# Altium integrated library Texas Instruments Power Management PWM Controller.IntLib: 1227 symbols (part 45 of 49)
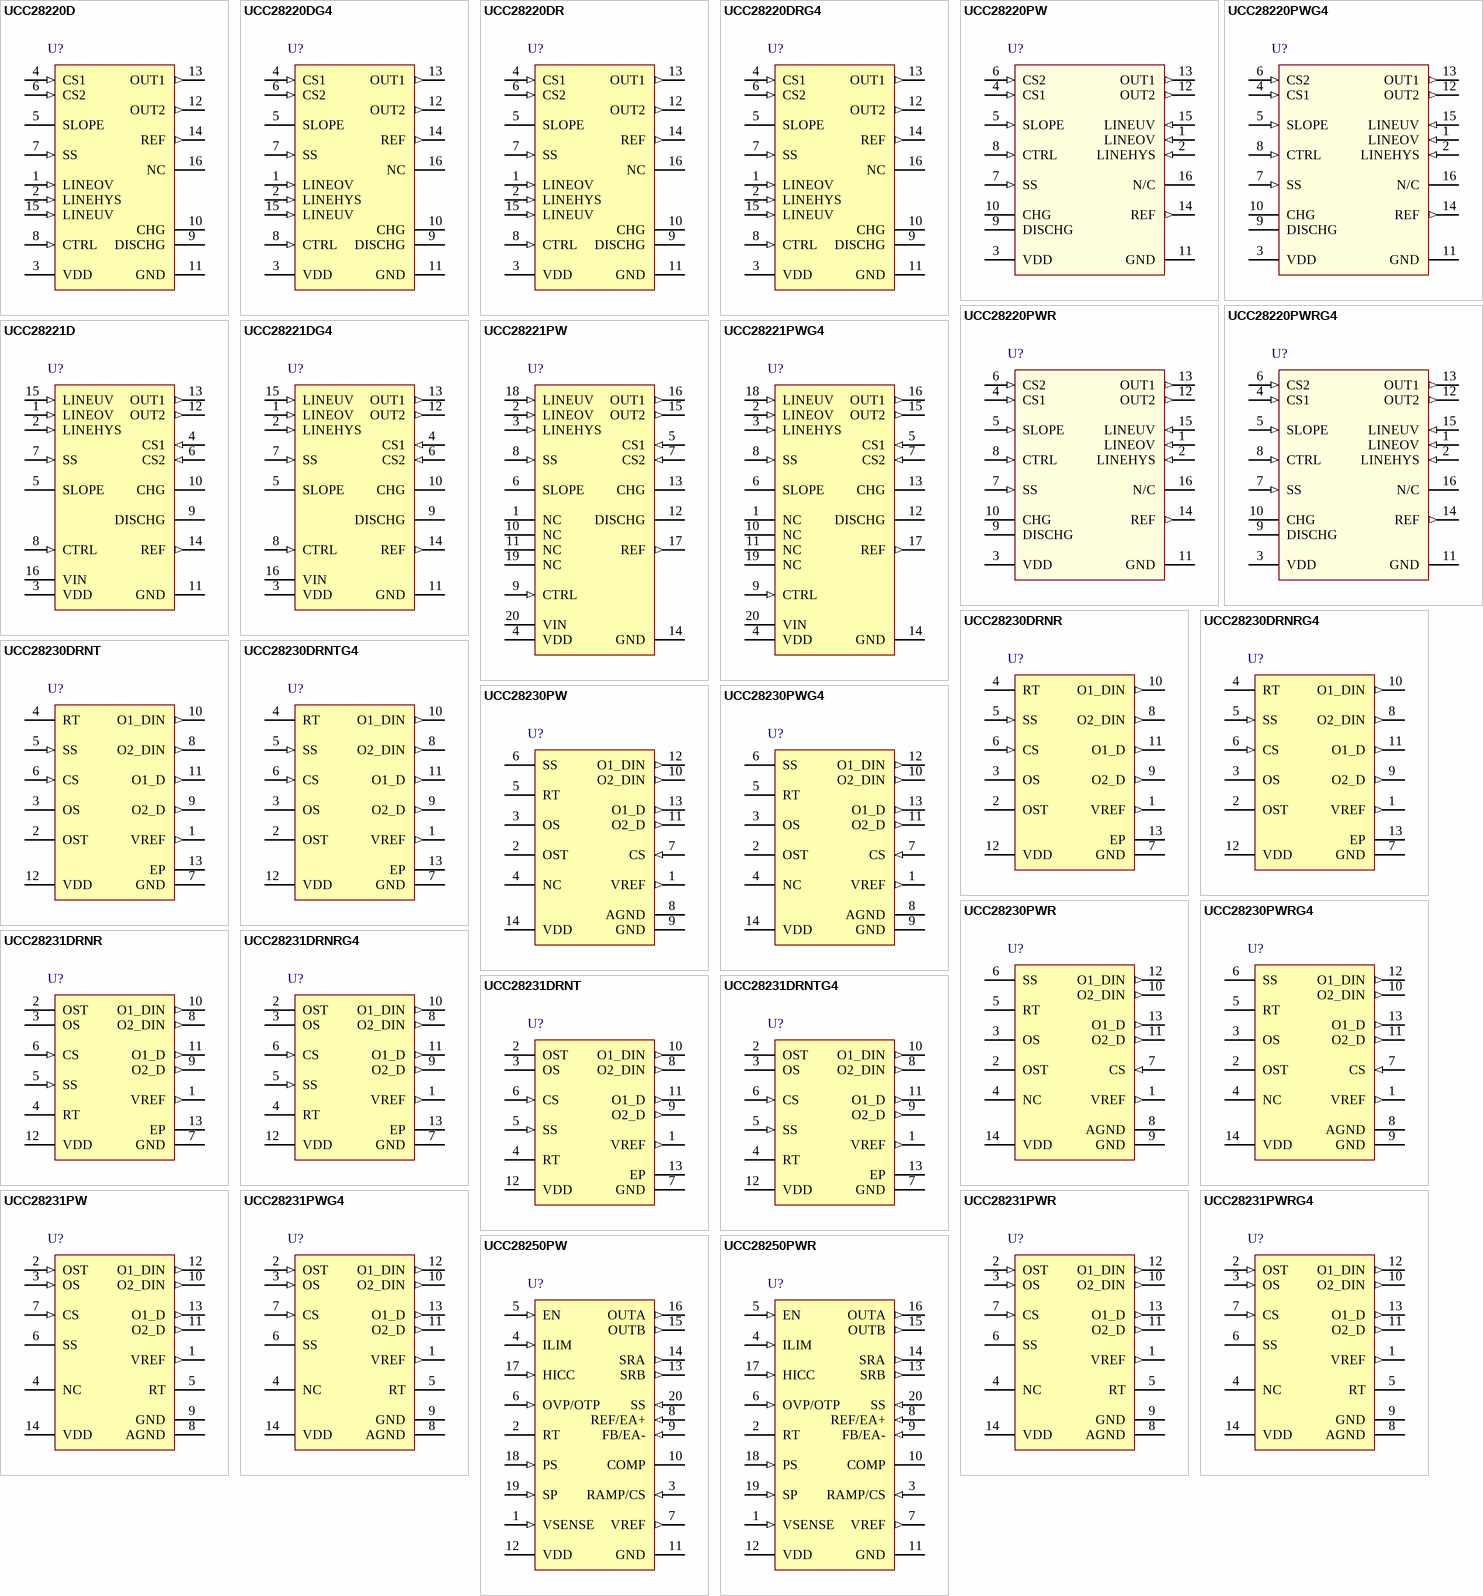
[diagram p87: symbols UCC28220D to UCC28250PWR]

## UCC28231DRNT
designator U?
Advanced PWM Controller for Bus Converter with Voltage Control, 100 % Duty Cycle, -55 to +125 degC, 12-pin USON (DRN), Green (RoHS & no Sb/Br); PartNumber: UCC28231DRNT; Manufacturer: Texas Instruments; Duty Cycle(Max)(%): 100; Frequency(Max)(kHz): 1000; Rating: Catalog; Regulated Outputs(#): 1; Topology: Push-Pull, Half-Bridge, Full-Bridge; UVLO Thresholds On/Off(V): 6.3/5.7; DatasheetVersion: SLUS814A; PackageVersion: revB, May-2005; PackageReference: DRN12-2300X900TP; PackageDescription: 12-Pin Plastic Small Outline, 2 x 3 x 0.6 mm Body, 0.5 mm Pitch, Exposed Pad; Supplier 1: Digi-Key; Supplier Part Number 1: 296-23562-2-ND; Supplier 2: Digi-Key; Supplier Part Number 2: 296-23562-1-ND; Supplier 3: Digi-Key; Supplier Part Number 3: 296-23562-6-ND; Supplier 4: Newark; Supplier Part Number 4: 15N0089; Supplier 5: Mouser; Supplier Part Number 5: 595-UCC28231DRNT; Control Method: Voltage; Eco-Plan: Green (RoHS & no Sb/Br); SubFamily: PWM Controller; Mounting Technology: Surface Mount; Code_JEDEC: MO-229; ComponentLink1Description: Datasheet; ComponentLink1URL: http://www.ti.com/general/docs/lit/getliterature.tsp?genericPartNumber=UCC28231&fileType=pdf
footprint DRN12-2300X900TP (SON, 12-Leads, Body 2x3mm, Pitch 0.5mm, Thermal Pad 0.9x2.3mm, TI Recommended)
pins: 1 VREF (out) "+/-1.5% accurate 5 V for UCC28230 and 3.3 V for UCC28231, 10-mA output reference voltage with short circuit protection that can be used for ixed switching frequency setting and/or for housekeeping microcontroller.place (See Datasheet)", 2 OST "Off time control threshold pin uses a resistor divider to set current level as percentage of current limit threshold.", 3 OS "Nominal off time TOFF and dead time TDT set pin.  An external resistor connected between this pin and GND sets the dead time and nominal off time.", 4 RT "Oscillator timing input pin. The external resistor which is connected between this pin and VIN sets the oscillator frequency which varies with VIN. Tying the external resistor to VREF sets fixed frequency operation (See Datasheet)", 5 SS (in) "Input to adjustable soft-start,and hiccup mode circuit. Place soft-start capacitor from this pin to GND. The internal charge/discharge current ISS and an external capacitor value set the soft-start timing, duration of (See Datasheet)", 6 CS (in) "Current sensing pin used for cycle-by-cycle current limit, short circuit protection and off time control.", 7 GND (power) "Ground pin connected to thermal pad. All signals are referenced to this node.", 8 O2_DIN (out) "0.2-A sink/source switching output pin to an external driver providing 1-D pulse.", 9 O2_D (out) "0.2-A sink/source switching output pin to an external driver providing D pulse.", 10 O1_DIN (out) "0.2-A sink/source switching output pin to an external driver providing 1-D pulse.", 11 O1_D (out) "0.2-A sink/source switching output pin to an external driver providing D pulse.", 12 VDD (power) "Connect this pin to a 7-V to 17-V bias supply. Place a high quality at least 1uF ceramic bypass capacitor from this pin to GND", 13 EP (power) "Exposed Thermal Pad"

## UCC28231DRNTG4
designator U?
Advanced PWM Controller for Bus Converter with Voltage Control, 100 % Duty Cycle, -55 to +125 degC, 12-pin USON (DRN), Green (RoHS & no Sb/Br); PartNumber: UCC28231DRNTG4; Manufacturer: Texas Instruments; Duty Cycle(Max)(%): 100; Frequency(Max)(kHz): 1000; Rating: Catalog; Regulated Outputs(#): 1; Topology: Push-Pull, Half-Bridge, Full-Bridge; UVLO Thresholds On/Off(V): 6.3/5.7; DatasheetVersion: SLUS814A; PackageVersion: revB, May-2005; PackageReference: DRN12-2300X900TP; PackageDescription: 12-Pin Plastic Small Outline, 2 x 3 x 0.6 mm Body, 0.5 mm Pitch, Exposed Pad; Supplier 1: Digi-Key; Supplier Part Number 1: UCC28231DRNTG4-ND; Supplier 2: Mouser; Supplier Part Number 2: 595-UCC28231DRNTG4; Control Method: Voltage; Eco-Plan: Green (RoHS & no Sb/Br); SubFamily: PWM Controller; Mounting Technology: Surface Mount; Code_JEDEC: MO-229; ComponentLink1Description: Datasheet; ComponentLink1URL: http://www.ti.com/general/docs/lit/getliterature.tsp?genericPartNumber=UCC28231&fileType=pdf
footprint DRN12-2300X900TP (SON, 12-Leads, Body 2x3mm, Pitch 0.5mm, Thermal Pad 0.9x2.3mm, TI Recommended)
pins: 1 VREF (out) "+/-1.5% accurate 5 V for UCC28230 and 3.3 V for UCC28231, 10-mA output reference voltage with short circuit protection that can be used for ixed switching frequency setting and/or for housekeeping microcontroller.place (See Datasheet)", 2 OST "Off time control threshold pin uses a resistor divider to set current level as percentage of current limit threshold.", 3 OS "Nominal off time TOFF and dead time TDT set pin.  An external resistor connected between this pin and GND sets the dead time and nominal off time.", 4 RT "Oscillator timing input pin. The external resistor which is connected between this pin and VIN sets the oscillator frequency which varies with VIN. Tying the external resistor to VREF sets fixed frequency operation (See Datasheet)", 5 SS (in) "Input to adjustable soft-start,and hiccup mode circuit. Place soft-start capacitor from this pin to GND. The internal charge/discharge current ISS and an external capacitor value set the soft-start timing, duration of (See Datasheet)", 6 CS (in) "Current sensing pin used for cycle-by-cycle current limit, short circuit protection and off time control.", 7 GND (power) "Ground pin connected to thermal pad. All signals are referenced to this node.", 8 O2_DIN (out) "0.2-A sink/source switching output pin to an external driver providing 1-D pulse.", 9 O2_D (out) "0.2-A sink/source switching output pin to an external driver providing D pulse.", 10 O1_DIN (out) "0.2-A sink/source switching output pin to an external driver providing 1-D pulse.", 11 O1_D (out) "0.2-A sink/source switching output pin to an external driver providing D pulse.", 12 VDD (power) "Connect this pin to a 7-V to 17-V bias supply. Place a high quality at least 1uF ceramic bypass capacitor from this pin to GND", 13 EP (power) "Exposed Thermal Pad"

## UCC28231PW
designator U?
Advanced PWM Controller for Bus Converter with Voltage Control, 100 % Duty Cycle, -55 to +125 degC, 14-pin TSSOP (PW), Green (RoHS & no Sb/Br); PartNumber: UCC28231PW; Manufacturer: Texas Instruments; Duty Cycle(Max)(%): 100; Frequency(Max)(kHz): 1000; Rating: Catalog; Regulated Outputs(#): 1; Topology: Push-Pull, Half-Bridge, Full-Bridge; UVLO Thresholds On/Off(V): 6.3/5.7; DatasheetVersion: SLUS814A; PackageVersion: revG, Feb-2011; PackageReference: PW14; PackageDescription: 14-Pin Thin Small Outline Package 0.65 mm Pitch; Supplier 1: Digi-Key; Supplier Part Number 1: UCC28231PW-ND; Supplier 2: Farnell; Supplier Part Number 2: 1755681; Supplier 3: Newark; Supplier Part Number 3: 02P9904; Supplier 4: Mouser; Supplier Part Number 4: 595-UCC28231PW; Control Method: Voltage; Eco-Plan: Green (RoHS & no Sb/Br); SubFamily: PWM Controller; Mounting Technology: Surface Mount; Code_JEDEC: MO-153; ComponentLink1Description: Datasheet; ComponentLink1URL: http://www.ti.com/general/docs/lit/getliterature.tsp?genericPartNumber=UCC28231&fileType=pdf
footprint PW14_N (TSOP, 14-Leads, Body 5x4.4mm, Pitch 0.65mm, IPC Medium Density)
footprint PW14_L (TSOP, 14-Leads, Body 5x4.4mm, Pitch 0.65mm, IPC High Density)
footprint PW14_M (TSOP, 14-Leads, Body 5x4.4mm, Pitch 0.65mm, IPC Low Density)
pins: 1 VREF (out) "+/-1.5% accurate 3.3 V for UCC28231, 10-mA output reference voltage with short circuit protection that can be used for fixed swiching frequency setting and/or for housekeeping miscrocontroller. Place decoupling capacitor in (See Datasheet)", 2 OST (in) "Off time control threshold pin uses a resistor divider to set current level as percentage of current limit threshold.", 3 OS (in) "Nominale off time TOFF and dead time TDT set pin. An external resistor connected between this pin and GND sets the dead time and nominal off time.", 4 NC "Not connected pin, TSSOP-14 only.", 5 RT "Oscillator timing input pin. The external resistor which is connected between this pin and VIN sets the oscillator frequency which varies with VIN. Tying the external resistor to VREF sets fixed frequency operation (See Datasheet)", 6 SS "Input to adjustable soft-start,and hiccup mode circuit. Place soft-start capacitor from this pin to GND. The internal charge/discharge current ISS and an external capacitor value set the soft-start timing, duration of (See Datasheet)", 7 CS (in) "Current sensing pin used for cycle-by-cycle current limit, short circuit protection and off time control.", 8 AGND (power) "Analog ground, TSSOP-14 only.", 9 GND (power) "Ground pin connected to thermal pad. All signals are referenced to this node.", 10 O2_DIN (out) "0.2-A sink/source switching output pin to an external driver providing 1-D pulse.", 11 O2_D (out) "0.2-A sink/source switching output pin to an external driver providing D pulse.", 12 O1_DIN (out) "0.2-A sink/source switching output pin to an external driver providing 1-D pulse.", 13 O1_D (out) "0.2-A sink/source switching output pin to an external driver providing D pulse.", 14 VDD (power) "Connect this pin to a 7-V to 17-V bias supply. Place a high quality at least 1-uF ceramic bypass capacitor from this pin to GND."

## UCC28231PWG4
designator U?
Advanced PWM Controller for Bus Converter with Voltage Control, 100 % Duty Cycle, -55 to +125 degC, 14-pin TSSOP (PW), Green (RoHS & no Sb/Br); PartNumber: UCC28231PWG4; Manufacturer: Texas Instruments; Duty Cycle(Max)(%): 100; Frequency(Max)(kHz): 1000; Rating: Catalog; Regulated Outputs(#): 1; Topology: Push-Pull, Half-Bridge, Full-Bridge; UVLO Thresholds On/Off(V): 6.3/5.7; DatasheetVersion: SLUS814A; PackageVersion: revG, Feb-2011; PackageReference: PW14; PackageDescription: 14-Pin Thin Small Outline Package 0.65 mm Pitch; Supplier 1: Digi-Key; Supplier Part Number 1: UCC28231PWG4-ND; Supplier 2: Mouser; Supplier Part Number 2: 595-UCC28231PWG4; Control Method: Voltage; Eco-Plan: Green (RoHS & no Sb/Br); SubFamily: PWM Controller; Mounting Technology: Surface Mount; Code_JEDEC: MO-153; ComponentLink1Description: Datasheet; ComponentLink1URL: http://www.ti.com/general/docs/lit/getliterature.tsp?genericPartNumber=UCC28231&fileType=pdf
footprint PW14_N (TSOP, 14-Leads, Body 5x4.4mm, Pitch 0.65mm, IPC Medium Density)
footprint PW14_L (TSOP, 14-Leads, Body 5x4.4mm, Pitch 0.65mm, IPC High Density)
footprint PW14_M (TSOP, 14-Leads, Body 5x4.4mm, Pitch 0.65mm, IPC Low Density)
pins: 1 VREF (out) "+/-1.5% accurate 3.3 V for UCC28231, 10-mA output reference voltage with short circuit protection that can be used for fixed swiching frequency setting and/or for housekeeping miscrocontroller. Place decoupling capacitor in (See Datasheet)", 2 OST (in) "Off time control threshold pin uses a resistor divider to set current level as percentage of current limit threshold.", 3 OS (in) "Nominale off time TOFF and dead time TDT set pin. An external resistor connected between this pin and GND sets the dead time and nominal off time.", 4 NC "Not connected pin, TSSOP-14 only.", 5 RT "Oscillator timing input pin. The external resistor which is connected between this pin and VIN sets the oscillator frequency which varies with VIN. Tying the external resistor to VREF sets fixed frequency operation (See Datasheet)", 6 SS "Input to adjustable soft-start,and hiccup mode circuit. Place soft-start capacitor from this pin to GND. The internal charge/discharge current ISS and an external capacitor value set the soft-start timing, duration of (See Datasheet)", 7 CS (in) "Current sensing pin used for cycle-by-cycle current limit, short circuit protection and off time control.", 8 AGND (power) "Analog ground, TSSOP-14 only.", 9 GND (power) "Ground pin connected to thermal pad. All signals are referenced to this node.", 10 O2_DIN (out) "0.2-A sink/source switching output pin to an external driver providing 1-D pulse.", 11 O2_D (out) "0.2-A sink/source switching output pin to an external driver providing D pulse.", 12 O1_DIN (out) "0.2-A sink/source switching output pin to an external driver providing 1-D pulse.", 13 O1_D (out) "0.2-A sink/source switching output pin to an external driver providing D pulse.", 14 VDD (power) "Connect this pin to a 7-V to 17-V bias supply. Place a high quality at least 1-uF ceramic bypass capacitor from this pin to GND."

## UCC28231PWR
designator U?
Advanced PWM Controller for Bus Converter with Voltage Control, 100 % Duty Cycle, -55 to +125 degC, 14-pin TSSOP (PW), Green (RoHS & no Sb/Br); PartNumber: UCC28231PWR; Manufacturer: Texas Instruments; Duty Cycle(Max)(%): 100; Frequency(Max)(kHz): 1000; Rating: Catalog; Regulated Outputs(#): 1; Topology: Push-Pull, Half-Bridge, Full-Bridge; UVLO Thresholds On/Off(V): 6.3/5.7; DatasheetVersion: SLUS814A; PackageVersion: revG, Feb-2011; PackageReference: PW14; PackageDescription: 14-Pin Thin Small Outline Package 0.65 mm Pitch; Supplier 1: Digi-Key; Supplier Part Number 1: 296-23563-2-ND; Supplier 2: Digi-Key; Supplier Part Number 2: 296-23563-1-ND; Supplier 3: Digi-Key; Supplier Part Number 3: 296-23563-6-ND; Supplier 4: Mouser; Supplier Part Number 4: 595-UCC28231PWR; Control Method: Voltage; Eco-Plan: Green (RoHS & no Sb/Br); SubFamily: PWM Controller; Mounting Technology: Surface Mount; Code_JEDEC: MO-153; ComponentLink1Description: Datasheet; ComponentLink1URL: http://www.ti.com/general/docs/lit/getliterature.tsp?genericPartNumber=UCC28231&fileType=pdf
footprint PW14_N (TSOP, 14-Leads, Body 5x4.4mm, Pitch 0.65mm, IPC Medium Density)
footprint PW14_L (TSOP, 14-Leads, Body 5x4.4mm, Pitch 0.65mm, IPC High Density)
footprint PW14_M (TSOP, 14-Leads, Body 5x4.4mm, Pitch 0.65mm, IPC Low Density)
pins: 1 VREF (out) "+/-1.5% accurate 3.3 V for UCC28231, 10-mA output reference voltage with short circuit protection that can be used for fixed swiching frequency setting and/or for housekeeping miscrocontroller. Place decoupling capacitor in (See Datasheet)", 2 OST (in) "Off time control threshold pin uses a resistor divider to set current level as percentage of current limit threshold.", 3 OS (in) "Nominale off time TOFF and dead time TDT set pin. An external resistor connected between this pin and GND sets the dead time and nominal off time.", 4 NC "Not connected pin, TSSOP-14 only.", 5 RT "Oscillator timing input pin. The external resistor which is connected between this pin and VIN sets the oscillator frequency which varies with VIN. Tying the external resistor to VREF sets fixed frequency operation (See Datasheet)", 6 SS "Input to adjustable soft-start,and hiccup mode circuit. Place soft-start capacitor from this pin to GND. The internal charge/discharge current ISS and an external capacitor value set the soft-start timing, duration of (See Datasheet)", 7 CS (in) "Current sensing pin used for cycle-by-cycle current limit, short circuit protection and off time control.", 8 AGND (power) "Analog ground, TSSOP-14 only.", 9 GND (power) "Ground pin connected to thermal pad. All signals are referenced to this node.", 10 O2_DIN (out) "0.2-A sink/source switching output pin to an external driver providing 1-D pulse.", 11 O2_D (out) "0.2-A sink/source switching output pin to an external driver providing D pulse.", 12 O1_DIN (out) "0.2-A sink/source switching output pin to an external driver providing 1-D pulse.", 13 O1_D (out) "0.2-A sink/source switching output pin to an external driver providing D pulse.", 14 VDD (power) "Connect this pin to a 7-V to 17-V bias supply. Place a high quality at least 1-uF ceramic bypass capacitor from this pin to GND."

## UCC28231PWRG4
designator U?
Advanced PWM Controller for Bus Converter with Voltage Control, 100 % Duty Cycle, -55 to +125 degC, 14-pin TSSOP (PW), Green (RoHS & no Sb/Br); PartNumber: UCC28231PWRG4; Manufacturer: Texas Instruments; Duty Cycle(Max)(%): 100; Frequency(Max)(kHz): 1000; Rating: Catalog; Regulated Outputs(#): 1; Topology: Push-Pull, Half-Bridge, Full-Bridge; UVLO Thresholds On/Off(V): 6.3/5.7; DatasheetVersion: SLUS814A; PackageVersion: revG, Feb-2011; PackageReference: PW14; PackageDescription: 14-Pin Thin Small Outline Package 0.65 mm Pitch; Supplier 1: Digi-Key; Supplier Part Number 1: UCC28231PWRG4-ND; Supplier 2: Mouser; Supplier Part Number 2: 595-UCC28231PWRG4; Control Method: Voltage; Eco-Plan: Green (RoHS & no Sb/Br); SubFamily: PWM Controller; Mounting Technology: Surface Mount; Code_JEDEC: MO-153; ComponentLink1Description: Datasheet; ComponentLink1URL: http://www.ti.com/general/docs/lit/getliterature.tsp?genericPartNumber=UCC28231&fileType=pdf; ComponentLink2Description: URL Link1; ComponentLink2URL: Samples URL:http://www.ti.com/lit/ds/symlink/ucc28231.pdf
footprint PW14_N (TSOP, 14-Leads, Body 5x4.4mm, Pitch 0.65mm, IPC Medium Density)
footprint PW14_L (TSOP, 14-Leads, Body 5x4.4mm, Pitch 0.65mm, IPC High Density)
footprint PW14_M (TSOP, 14-Leads, Body 5x4.4mm, Pitch 0.65mm, IPC Low Density)
pins: 1 VREF (out) "+/-1.5% accurate 3.3 V for UCC28231, 10-mA output reference voltage with short circuit protection that can be used for fixed swiching frequency setting and/or for housekeeping miscrocontroller. Place decoupling capacitor in (See Datasheet)", 2 OST (in) "Off time control threshold pin uses a resistor divider to set current level as percentage of current limit threshold.", 3 OS (in) "Nominale off time TOFF and dead time TDT set pin. An external resistor connected between this pin and GND sets the dead time and nominal off time.", 4 NC "Not connected pin, TSSOP-14 only.", 5 RT "Oscillator timing input pin. The external resistor which is connected between this pin and VIN sets the oscillator frequency which varies with VIN. Tying the external resistor to VREF sets fixed frequency operation (See Datasheet)", 6 SS "Input to adjustable soft-start,and hiccup mode circuit. Place soft-start capacitor from this pin to GND. The internal charge/discharge current ISS and an external capacitor value set the soft-start timing, duration of (See Datasheet)", 7 CS (in) "Current sensing pin used for cycle-by-cycle current limit, short circuit protection and off time control.", 8 AGND (power) "Analog ground, TSSOP-14 only.", 9 GND (power) "Ground pin connected to thermal pad. All signals are referenced to this node.", 10 O2_DIN (out) "0.2-A sink/source switching output pin to an external driver providing 1-D pulse.", 11 O2_D (out) "0.2-A sink/source switching output pin to an external driver providing D pulse.", 12 O1_DIN (out) "0.2-A sink/source switching output pin to an external driver providing 1-D pulse.", 13 O1_D (out) "0.2-A sink/source switching output pin to an external driver providing D pulse.", 14 VDD (power) "Connect this pin to a 7-V to 17-V bias supply. Place a high quality at least 1-uF ceramic bypass capacitor from this pin to GND."

## UCC28250PW
designator U?
Advanced PWM Controller with Pre-Bias Operation with Current, Voltage Control, 100 % Duty Cycle, -40 to +125 degC, 20-pin TSSOP (PW), Green (RoHS & no Sb/Br); PartNumber: UCC28250PW; Manufacturer: Texas Instruments; Duty Cycle(Max)(%): 100; Frequency(Max)(kHz): 1000; Rating: Catalog; UVLO Thresholds On/Off(V): 4.3/4.1; DatasheetVersion: SLUSA29C; PackageVersion: revG, Feb-2011; PackageReference: PW20; PackageDescription: 20-Pin Plastic Thin Small Outline Package 6.5 x 4.4 mm Body ,0.65 mm Pitch; Supplier 1: Digi-Key; Supplier Part Number 1: 296-27776-5-ND; Supplier 2: Farnell; Supplier Part Number 2: 1840394; Supplier 3: Farnell; Supplier Part Number 3: 1841886; Supplier 4: Newark; Supplier Part Number 4: 86R1114; Supplier 5: Mouser; Supplier Part Number 5: 595-UCC28250PW; Control Method: Current, Voltage; Eco-Plan: Green (RoHS & no Sb/Br); SubFamily: PWM Controller; Mounting Technology: Surface Mount; Code_JEDEC: MO-153; ComponentLink1Description: Datasheet; ComponentLink1URL: http://www.ti.com/general/docs/lit/getliterature.tsp?genericPartNumber=UCC28250&fileType=pdf
footprint PW20_N (TSOP, 20-Leads, Body 6.5x4.4mm, Pitch 0.65mm, IPC Medium Density)
footprint PW20_L (TSOP, 20-Leads, Body 6.5x4.4mm, Pitch 0.65mm, IPC High Density)
footprint PW20_M (TSOP, 20-Leads, Body 6.5x4.4mm, Pitch 0.65mm, IPC Low Density)
pins: 1 VSENSE (in) "Output voltage sensing for pre-bias control.", 2 RT "Oscillator frequency set or synchronous clock input.", 3 RAMP/CS (in) "PWM ramp input (for voltage mode control) or current sense input (for current mode control).", 4 ILIM (in) "Current sense for cycle-by-cycle over-current protection.", 5 EN (in) "Device enable and disable.", 6 OVP/OTP (in) "Over voltage and over temperature protection pin.", 7 VREF (out) "3.3-V reference output.", 8 REF/EA+ (in) "Error amplifier non-inverting input.", 9 FB/EA- (in) "Error amplifier inverting input.", 10 COMP "Error amplifier output.", 11 GND (power) "Ground.", 12 VDD (power) "Bias supply input.", 13 SRB (out) "0.2-A sink/source synchronous rectifier output.", 14 SRA (out) "0.2-A sink/source synchronous rectifier output.", 15 OUTB (out) "0.2-A sink/source primary switching output.", 16 OUTA (out) "0.2-A sink/source primary switching output.", 17 HICC (in) "Cycle-by-cycle current limit time delay and Hiccup time setting.", 18 PS (in) "Primary off to synchronous rectifier on dead-time set .", 19 SP (in) "Synchronous rectifier off to primary on dead-time set .", 20 SS (in) "Soft-start programming."

## UCC28250PWR
designator U?
Advanced PWM Controller with Pre-Bias Operation with Current, Voltage Control, 100 % Duty Cycle, -40 to +125 degC, 20-pin TSSOP (PW), Green (RoHS & no Sb/Br); PartNumber: UCC28250PWR; Manufacturer: Texas Instruments; Duty Cycle(Max)(%): 100; Frequency(Max)(kHz): 1000; Rating: Catalog; UVLO Thresholds On/Off(V): 4.3/4.1; DatasheetVersion: SLUSA29C; PackageVersion: revG, Feb-2011; PackageReference: PW20; PackageDescription: 20-Pin Plastic Thin Small Outline Package 6.5 x 4.4 mm Body ,0.65 mm Pitch; Supplier 1: Digi-Key; Supplier Part Number 1: UCC28250PWR-ND; Supplier 2: Mouser; Supplier Part Number 2: 595-UCC28250PWR; Control Method: Current, Voltage; Eco-Plan: Green (RoHS & no Sb/Br); SubFamily: PWM Controller; Mounting Technology: Surface Mount; Code_JEDEC: MO-153; ComponentLink1Description: Datasheet; ComponentLink1URL: http://www.ti.com/general/docs/lit/getliterature.tsp?genericPartNumber=UCC28250&fileType=pdf
footprint PW20_N (TSOP, 20-Leads, Body 6.5x4.4mm, Pitch 0.65mm, IPC Medium Density)
footprint PW20_L (TSOP, 20-Leads, Body 6.5x4.4mm, Pitch 0.65mm, IPC High Density)
footprint PW20_M (TSOP, 20-Leads, Body 6.5x4.4mm, Pitch 0.65mm, IPC Low Density)
pins: 1 VSENSE (in) "Output voltage sensing for pre-bias control.", 2 RT "Oscillator frequency set or synchronous clock input.", 3 RAMP/CS (in) "PWM ramp input (for voltage mode control) or current sense input (for current mode control).", 4 ILIM (in) "Current sense for cycle-by-cycle over-current protection.", 5 EN (in) "Device enable and disable.", 6 OVP/OTP (in) "Over voltage and over temperature protection pin.", 7 VREF (out) "3.3-V reference output.", 8 REF/EA+ (in) "Error amplifier non-inverting input.", 9 FB/EA- (in) "Error amplifier inverting input.", 10 COMP "Error amplifier output.", 11 GND (power) "Ground.", 12 VDD (power) "Bias supply input.", 13 SRB (out) "0.2-A sink/source synchronous rectifier output.", 14 SRA (out) "0.2-A sink/source synchronous rectifier output.", 15 OUTB (out) "0.2-A sink/source primary switching output.", 16 OUTA (out) "0.2-A sink/source primary switching output.", 17 HICC (in) "Cycle-by-cycle current limit time delay and Hiccup time setting.", 18 PS (in) "Primary off to synchronous rectifier on dead-time set .", 19 SP (in) "Synchronous rectifier off to primary on dead-time set .", 20 SS (in) "Soft-start programming."

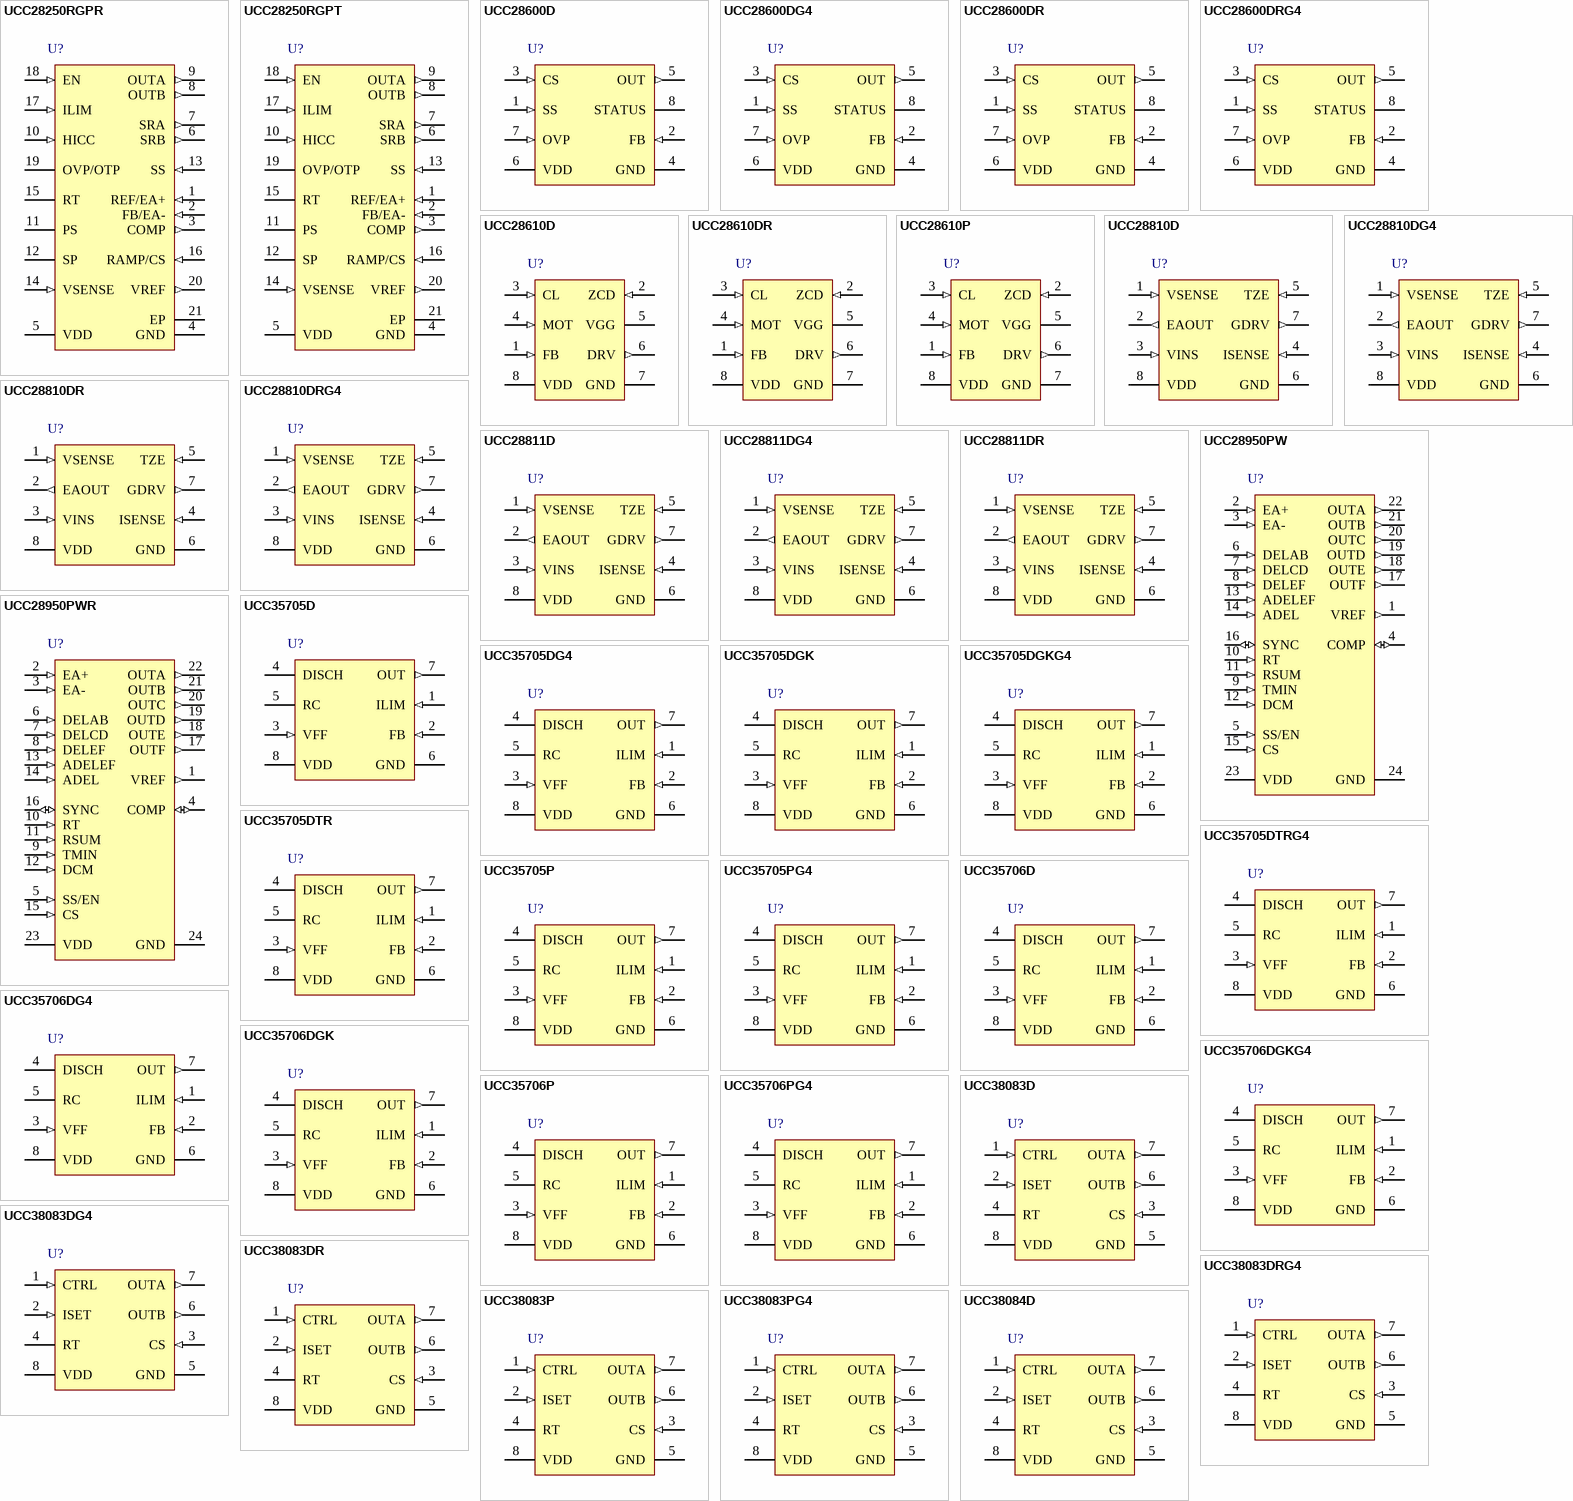
[diagram p42: symbols UCC28250RGPR to UCC38084D]

## UCC28250RGPR
designator U?
Advanced PWM Controller with Pre-Bias Operation with Current, Voltage Control, 100 % Duty Cycle, -40 to +125 degC, 20-pin QFN (RGP),Green (RoHS & no Sb/Br); PartNumber: UCC28250RGPR; Manufacturer: Texas Instruments; Duty Cycle(Max)(%): 100; Frequency(Max)(kHz): 1000; Rating: Catalog; UVLO Thresholds On/Off(V): 4.3/4.1; DatasheetVersion: SLUSA29C; PackageVersion: revG, Jul-2011; PackageReference: RGP20-2200X2200TP; PackageDescription: 20-Pin Plastic Quad Flatpack No-Lead, 4 x 4 mm Body, 0.5 mm Pitch, 2.2 x 2.2 mm Exposed Pad; Supplier 1: Digi-Key; Supplier Part Number 1: UCC28250RGPR-ND; Supplier 2: Newark; Supplier Part Number 2: 01T0916; Supplier 3: Mouser; Supplier Part Number 3: 595-UCC28250RGPR; Control Method: Current, Voltage; Eco-Plan: Green (RoHS & no Sb/Br); SubFamily: PWM Controller; Mounting Technology: Surface Mount; ComponentLink1Description: Datasheet; ComponentLink1URL: http://www.ti.com/general/docs/lit/getliterature.tsp?genericPartNumber=UCC28250&fileType=pdf
footprint RGP20-2200X2200TP (QFN, 20-Leads, Body 4x4mm, Pitch 0.5mm, Thermal Pad 2.2x2.2mm, TI Recommended)
pins: 1 REF/EA+ (in) "Error amplifier non-inverting input.", 2 FB/EA- (in) "Error amplifier inverting input.", 3 COMP (out) "Error amplifier output.", 4 GND (power) "Ground.", 5 VDD (power) "Bias supply input.", 6 SRB (out) "0.2-A sink/source synchronous rectifier output.", 7 SRA (out) "0.2-A sink/source synchronous rectifier output.", 8 OUTB (out) "0.2-A sink/source primary switching output.", 9 OUTA (out) "0.2-A sink/source primary switching output.", 10 HICC (in) "Cycle-by-cycle current limit time delay and Hiccup time setting.", 11 PS "Primary off to synchronous rectifier on dead-time set .", 12 SP "Synchronous rectifier off to primary on dead-time set .", 13 SS (in) "Soft-start programming.", 14 VSENSE (in) "Output voltage sensing for pre-bias control.", 15 RT "Oscillator frequency set or synchronous clock input.", 16 RAMP/CS (in) "PWM ramp input (for voltage mode control) or current sense input (for current mode control).", 17 ILIM (in) "Current sense for cycle-by-cycle over-current protection.", 18 EN (in) "Device enable and disable.", 19 OVP/OTP "Over voltage and over temperature protection pin.", 20 VREF (out) "3.3-V reference output.", 21 EP "Exposed Pad"

## UCC28250RGPT
designator U?
Advanced PWM Controller with Pre-Bias Operation with Current, Voltage control, 100 % Duty Cycle, -40 to +125 degC, 20-pin QFN (RGP), Green (RoHS & no Sb/Br); PartNumber: UCC28250RGPT; Manufacturer: Texas Instruments; Duty Cycle(Max)(%): 100; Frequency(Max)(kHz): 1000; Rating: Catalog; UVLO Thresholds On/Off(V): 4.3/4.1; DatasheetVersion: SLUSA29C; PackageVersion: revG, Jul-2011; PackageReference: RGP20-2200X2200TP; PackageDescription: 20-Pin Plastic Quad Flatpack No-Lead, 4 x 4 mm Body, 0.5 mm Pitch, 2.2 x 2.2 mm Exposed Pad; Supplier 1: Digi-Key; Supplier Part Number 1: 296-27777-2-ND; Supplier 2: Digi-Key; Supplier Part Number 2: 296-27777-1-ND; Supplier 3: Digi-Key; Supplier Part Number 3: 296-27777-6-ND; Supplier 4: Farnell; Supplier Part Number 4: 1841887; Supplier 5: Farnell; Supplier Part Number 5: 1840395; Supplier 6: Newark; Supplier Part Number 6: 86R1115; Supplier 7: Mouser; Supplier Part Number 7: 595-UCC28250RGPT; Control Method: Current,Voltage; Eco-Plan: Green (RoHS & no Sb/Br); SubFamily: PWM Controller; Mounting Technology: Surface Mount; ComponentLink1Description: Datasheet; ComponentLink1URL: http://www.ti.com/general/docs/lit/getliterature.tsp?genericPartNumber=UCC28250&fileType=pdf
footprint RGP20-2200X2200TP (QFN, 20-Leads, Body 4x4mm, Pitch 0.5mm, Thermal Pad 2.2x2.2mm, TI Recommended)
pins: 1 REF/EA+ (in) "Error amplifier non-inverting input.", 2 FB/EA- (in) "Error amplifier inverting input.", 3 COMP (out) "Error amplifier output.", 4 GND (power) "Ground.", 5 VDD (power) "Bias supply input.", 6 SRB (out) "0.2-A sink/source synchronous rectifier output.", 7 SRA (out) "0.2-A sink/source synchronous rectifier output.", 8 OUTB (out) "0.2-A sink/source primary switching output.", 9 OUTA (out) "0.2-A sink/source primary switching output.", 10 HICC (in) "Cycle-by-cycle current limit time delay and Hiccup time setting.", 11 PS "Primary off to synchronous rectifier on dead-time set .", 12 SP "Synchronous rectifier off to primary on dead-time set .", 13 SS (in) "Soft-start programming.", 14 VSENSE (in) "Output voltage sensing for pre-bias control.", 15 RT "Oscillator frequency set or synchronous clock input.", 16 RAMP/CS (in) "PWM ramp input (for voltage mode control) or current sense input (for current mode control).", 17 ILIM (in) "Current sense for cycle-by-cycle over-current protection.", 18 EN (in) "Device enable and disable.", 19 OVP/OTP "Over voltage and over temperature protection pin.", 20 VREF (out) "3.3-V reference output.", 21 EP "Exposed Pad"

## UCC28600D
designator U?
Quasi-Resonant Flyback Green-Mode Controller with Current Control, 99 % Duty Cycle, -40 to +105 degC, 8-pin SOIC (D), Green (RoHS & no Sb/Br); PartNumber: UCC28600D; Manufacturer: Texas Instruments; Duty Cycle(Max)(%): 99; Frequency(Max)(kHz): 130; Rating: Catalog; Regulated Outputs(#): 1; SubFamily: PWM Controller; UVLO Thresholds On/Off(V): 10.3/9.3; DatasheetVersion: SLUS646J; PackageVersion: revM, Jun-2011; PackageReference: D8; PackageDescription: 8-Pin Plastic Small Outline Integrated Circuit, 4.9 x 3.9 mm, Pitch 1.27 mm Pitch; Supplier 1: Digi-Key; Supplier Part Number 1: 296-19799-5-ND; Supplier 2: Farnell; Supplier Part Number 2: 1564930; Supplier 3: Newark; Supplier Part Number 3: 99K4471; Supplier 4: Mouser; Supplier Part Number 4: 595-UCC28600D; Control Method: Current; Eco-Plan: Green (RoHS & no Sb/Br); Topology: Flyback; Mounting Technology: Surface Mount; Code_JEDEC: MS-012AA; ComponentLink1Description: Datasheet; ComponentLink1URL: http://www.ti.com/general/docs/lit/getliterature.tsp?genericPartNumber=UCC28600&fileType=pdf
footprint D8_N (SOIC, 8-Leads, Body 4.9x3.9mm, Pitch 1.27mm, IPC Medium Density)
footprint D8_L (SOIC, 8-Leads, Body 4.9x3.9mm, Pitch 1.27mm, IPC High Density)
footprint D8_M (SOIC, 8-Leads, Body 4.9x3.9mm, Pitch 1.27mm, IPC Low Density)
pins: 1 SS (in) "Soft-start programming pin. Program the soft-start rate with a capacitor to ground; the rate is determined by the capacitance and the internal soft-start charge current. Placement of the soft-start capacitor is critical and (See Datasheet)", 2 FB (in) "Feedback input or control input from the optocoupler to the PWM comparator used to control the peak current in the power MOSFET. An internal 20-k ohm resistor is between this pin and the internal 5-V regulated voltage. (See Datasheet)", 3 CS (in) "Current sense input. Also programs power limit, and used to control modulation and activate overcurrent protection. The CS voltage input originates across a current sense resistor and ground. Power limit is programmed with (See Datasheet)", 4 GND (power) "Ground for internal circuitry. Connect a ceramic 0.1-uF bypass capacitor between VDD and GND, with the capacitor as close to these two pins as possible.", 5 OUT (out) "1-A sink (TrueDrive ) and 0.75-A source gate drive output. This output drives the power MOSFET and switches between GND and the lower of VDD or the 13-V internal output clamp.", 6 VDD (power) "Provides power to the device. Use a ceramic 0.1-uF by-pass capacitor for high-frequency filtering of the VDD pin, as described in the GND pin description. Operating energy is usually delivered from auxiliary winding. To (See Datasheet)", 7 OVP (in) "Over voltage protection (OVP) input senses line-OVP, load-OVP and the resonant trough for QR turn-on. Detect line, load and resonant conditions using the primary bias winding of the transformer, adjust sensitivity with (See Datasheet)", 8 STATUS (hiz) "ACTIVE HIGH open drain signal that indicates the device has entered standby mode. This pin can be used to disable the PFC control circuit (high impedance = green mode). STATUS pin is high during UVLO, (VDD < startup (See Datasheet)"

## UCC28600DG4
designator U?
Quasi-Resonant Flyback Green-Mode Controller with Current Control, 99 % Duty Cycle, -40 to +105 degC, 8-pin SOIC (D), Green (RoHS & no Sb/Br); PartNumber: UCC28600DG4; Manufacturer: Texas Instruments; Duty Cycle(Max)(%): 99; Frequency(Max)(kHz): 130; Rating: Catalog; Regulated Outputs(#): 1; SubFamily: PWM Controller; UVLO Thresholds On/Off(V): 10.3/9.3; DatasheetVersion: SLUS646J; PackageVersion: revM, Jun-2011; PackageReference: D8; PackageDescription: 8-Pin Plastic Small Outline Integrated Circuit, 4.9 x 3.9 mm, Pitch 1.27 mm Pitch; Supplier 1: Digi-Key; Supplier Part Number 1: UCC28600DG4-ND; Supplier 2: Newark; Supplier Part Number 2: 02M4372; Supplier 3: Mouser; Supplier Part Number 3: 595-UCC28600DG4; Control Method: Current; Eco-Plan: Green (RoHS & no Sb/Br); Topology: Flyback; Mounting Technology: Surface Mount; Code_JEDEC: MS-012AA; ComponentLink1Description: Datasheet; ComponentLink1URL: http://www.ti.com/general/docs/lit/getliterature.tsp?genericPartNumber=UCC28600&fileType=pdf
footprint D8_N (SOIC, 8-Leads, Body 4.9x3.9mm, Pitch 1.27mm, IPC Medium Density)
footprint D8_L (SOIC, 8-Leads, Body 4.9x3.9mm, Pitch 1.27mm, IPC High Density)
footprint D8_M (SOIC, 8-Leads, Body 4.9x3.9mm, Pitch 1.27mm, IPC Low Density)
pins: 1 SS (in) "Soft-start programming pin. Program the soft-start rate with a capacitor to ground; the rate is determined by the capacitance and the internal soft-start charge current. Placement of the soft-start capacitor is critical and (See Datasheet)", 2 FB (in) "Feedback input or control input from the optocoupler to the PWM comparator used to control the peak current in the power MOSFET. An internal 20-k ohm resistor is between this pin and the internal 5-V regulated voltage. (See Datasheet)", 3 CS (in) "Current sense input. Also programs power limit, and used to control modulation and activate overcurrent protection. The CS voltage input originates across a current sense resistor and ground. Power limit is programmed with (See Datasheet)", 4 GND (power) "Ground for internal circuitry. Connect a ceramic 0.1-uF bypass capacitor between VDD and GND, with the capacitor as close to these two pins as possible.", 5 OUT (out) "1-A sink (TrueDrive ) and 0.75-A source gate drive output. This output drives the power MOSFET and switches between GND and the lower of VDD or the 13-V internal output clamp.", 6 VDD (power) "Provides power to the device. Use a ceramic 0.1-uF by-pass capacitor for high-frequency filtering of the VDD pin, as described in the GND pin description. Operating energy is usually delivered from auxiliary winding. To (See Datasheet)", 7 OVP (in) "Over voltage protection (OVP) input senses line-OVP, load-OVP and the resonant trough for QR turn-on. Detect line, load and resonant conditions using the primary bias winding of the transformer, adjust sensitivity with (See Datasheet)", 8 STATUS (hiz) "ACTIVE HIGH open drain signal that indicates the device has entered standby mode. This pin can be used to disable the PFC control circuit (high impedance = green mode). STATUS pin is high during UVLO, (VDD < startup (See Datasheet)"

## UCC28600DR
designator U?
Quasi-Resonant Flyback Green-Mode Controller with Current Control, 99 % Duty Cycle, -40 to +105 degC, 8-pin SOIC (D), Green (RoHS & no Sb/Br); PartNumber: UCC28600DR; Manufacturer: Texas Instruments; Duty Cycle(Max)(%): 99; Frequency(Max)(kHz): 130; Rating: Catalog; Regulated Outputs(#): 1; SubFamily: PWM Controller; UVLO Thresholds On/Off(V): 10.3/9.3; DatasheetVersion: SLUS646J; PackageVersion: revM, Jun-2011; PackageReference: D8; PackageDescription: 8-Pin Plastic Small Outline Integrated Circuit, 4.9 x 3.9 mm, Pitch 1.27 mm Pitch; Supplier 1: Digi-Key; Supplier Part Number 1: 296-27161-2-ND; Supplier 2: Digi-Key; Supplier Part Number 2: 296-27161-1-ND; Supplier 3: Digi-Key; Supplier Part Number 3: 296-27161-6-ND; Supplier 4: Newark; Supplier Part Number 4: 99K4472; Supplier 5: Mouser; Supplier Part Number 5: 595-UCC28600DR; Control Method: Current; Eco-Plan: Green (RoHS & no Sb/Br); Topology: Flyback; Mounting Technology: Surface Mount; Code_JEDEC: MS-012AA; ComponentLink1Description: Datasheet; ComponentLink1URL: http://www.ti.com/general/docs/lit/getliterature.tsp?genericPartNumber=UCC28600&fileType=pdf
footprint D8_N (SOIC, 8-Leads, Body 4.9x3.9mm, Pitch 1.27mm, IPC Medium Density)
footprint D8_L (SOIC, 8-Leads, Body 4.9x3.9mm, Pitch 1.27mm, IPC High Density)
footprint D8_M (SOIC, 8-Leads, Body 4.9x3.9mm, Pitch 1.27mm, IPC Low Density)
pins: 1 SS (in) "Soft-start programming pin. Program the soft-start rate with a capacitor to ground; the rate is determined by the capacitance and the internal soft-start charge current. Placement of the soft-start capacitor is critical and (See Datasheet)", 2 FB (in) "Feedback input or control input from the optocoupler to the PWM comparator used to control the peak current in the power MOSFET. An internal 20-k ohm resistor is between this pin and the internal 5-V regulated voltage. (See Datasheet)", 3 CS (in) "Current sense input. Also programs power limit, and used to control modulation and activate overcurrent protection. The CS voltage input originates across a current sense resistor and ground. Power limit is programmed with (See Datasheet)", 4 GND (power) "Ground for internal circuitry. Connect a ceramic 0.1-uF bypass capacitor between VDD and GND, with the capacitor as close to these two pins as possible.", 5 OUT (out) "1-A sink (TrueDrive ) and 0.75-A source gate drive output. This output drives the power MOSFET and switches between GND and the lower of VDD or the 13-V internal output clamp.", 6 VDD (power) "Provides power to the device. Use a ceramic 0.1-uF by-pass capacitor for high-frequency filtering of the VDD pin, as described in the GND pin description. Operating energy is usually delivered from auxiliary winding. To (See Datasheet)", 7 OVP (in) "Over voltage protection (OVP) input senses line-OVP, load-OVP and the resonant trough for QR turn-on. Detect line, load and resonant conditions using the primary bias winding of the transformer, adjust sensitivity with (See Datasheet)", 8 STATUS (hiz) "ACTIVE HIGH open drain signal that indicates the device has entered standby mode. This pin can be used to disable the PFC control circuit (high impedance = green mode). STATUS pin is high during UVLO, (VDD < startup (See Datasheet)"

## UCC28600DRG4
designator U?
Quasi-Resonant Flyback Green-Mode Controller with Current Control, 99 % Duty Cycle, -40 to +105 degC, 8-pin SOIC (D), Green (RoHS & no Sb/Br); PartNumber: UCC28600DRG4; Manufacturer: Texas Instruments; Duty Cycle(Max)(%): 99; Frequency(Max)(kHz): 130; Rating: Catalog; Regulated Outputs(#): 1; SubFamily: PWM Controller; UVLO Thresholds On/Off(V): 10.3/9.3; DatasheetVersion: SLUS646J; PackageVersion: revM, Jun-2011; PackageReference: D8; PackageDescription: 8-Pin Plastic Small Outline Integrated Circuit, 4.9 x 3.9 mm, Pitch 1.27 mm Pitch; Supplier 1: Digi-Key; Supplier Part Number 1: UCC28600DRG4-ND; Supplier 2: Newark; Supplier Part Number 2: 02M4373; Supplier 3: Mouser; Supplier Part Number 3: 595-UCC28600DRG4; Control Method: Current; Eco-Plan: Green (RoHS & no Sb/Br); Topology: Flyback; Mounting Technology: Surface Mount; Code_JEDEC: MS-012AA; ComponentLink1Description: Datasheet; ComponentLink1URL: http://www.ti.com/general/docs/lit/getliterature.tsp?genericPartNumber=UCC28600&fileType=pdf
footprint D8_N (SOIC, 8-Leads, Body 4.9x3.9mm, Pitch 1.27mm, IPC Medium Density)
footprint D8_L (SOIC, 8-Leads, Body 4.9x3.9mm, Pitch 1.27mm, IPC High Density)
footprint D8_M (SOIC, 8-Leads, Body 4.9x3.9mm, Pitch 1.27mm, IPC Low Density)
pins: 1 SS (in) "Soft-start programming pin. Program the soft-start rate with a capacitor to ground; the rate is determined by the capacitance and the internal soft-start charge current. Placement of the soft-start capacitor is critical and (See Datasheet)", 2 FB (in) "Feedback input or control input from the optocoupler to the PWM comparator used to control the peak current in the power MOSFET. An internal 20-k ohm resistor is between this pin and the internal 5-V regulated voltage. (See Datasheet)", 3 CS (in) "Current sense input. Also programs power limit, and used to control modulation and activate overcurrent protection. The CS voltage input originates across a current sense resistor and ground. Power limit is programmed with (See Datasheet)", 4 GND (power) "Ground for internal circuitry. Connect a ceramic 0.1-uF bypass capacitor between VDD and GND, with the capacitor as close to these two pins as possible.", 5 OUT (out) "1-A sink (TrueDrive ) and 0.75-A source gate drive output. This output drives the power MOSFET and switches between GND and the lower of VDD or the 13-V internal output clamp.", 6 VDD (power) "Provides power to the device. Use a ceramic 0.1-uF by-pass capacitor for high-frequency filtering of the VDD pin, as described in the GND pin description. Operating energy is usually delivered from auxiliary winding. To (See Datasheet)", 7 OVP (in) "Over voltage protection (OVP) input senses line-OVP, load-OVP and the resonant trough for QR turn-on. Detect line, load and resonant conditions using the primary bias winding of the transformer, adjust sensitivity with (See Datasheet)", 8 STATUS (hiz) "ACTIVE HIGH open drain signal that indicates the device has entered standby mode. This pin can be used to disable the PFC control circuit (high impedance = green mode). STATUS pin is high during UVLO, (VDD < startup (See Datasheet)"

## UCC28610D
designator U?
Green-Mode Flyback Power Supply Controller with Discontinuous Current Control, -40 to +125 degC, 8-pin SOIC (D), Green (RoHS & no Sb/Br); PartNumber: UCC28610D; Manufacturer: Texas Instruments; Frequency(Max)(kHz): 130; Rating: Catalog; SubFamily: PWM Controller; DatasheetVersion: SLUS888E; PackageVersion: revM, Jun-2011; PackageReference: D8; PackageDescription: 8-Pin Plastic Small Outline Integrated Circuit, 4.9 x 3.9 mm, Pitch 1.27 mm Pitch; Supplier 1: Digi-Key; Supplier Part Number 1: 296-34756-5-ND; Supplier 2: Farnell; Supplier Part Number 2: 1778218; Supplier 3: Newark; Supplier Part Number 3: 35R6296; Supplier 4: Mouser; Supplier Part Number 4: 595-UCC28610D; Control Method: Discontinuous Current; Eco-Plan: Green (RoHS & no Sb/Br); Topology: Flyback; UVLO Thresholds On/Off(V): 10.2/8; Mounting Technology: Surface Mount; Code_JEDEC: MS-012AA; ComponentLink1Description: Datasheet; ComponentLink1URL: http://www.ti.com/general/docs/lit/getliterature.tsp?genericPartNumber=UCC28610&fileType=pdf
footprint D8_N (SOIC, 8-Leads, Body 4.9x3.9mm, Pitch 1.27mm, IPC Medium Density)
footprint D8_L (SOIC, 8-Leads, Body 4.9x3.9mm, Pitch 1.27mm, IPC High Density)
footprint D8_M (SOIC, 8-Leads, Body 4.9x3.9mm, Pitch 1.27mm, IPC Low Density)
pins: 1 FB (in) "(FeedBack) The FB current, IFB, commands the operating mode of the UCC28610. The FB voltage is always 0.7 V. This pin only detects current.", 2 ZCD (in) "(Zero Current Detection) This pin has two functions: 1. ZCD senses the transformer reset based on a valid zero current detection signal. ZCD 2 I 2. ZCD programs the output Over Voltage Protection (OVP) feature using a (See Datasheet)", 3 CL (in) "(Current Limit) This pin programs the peak primary inductor current that is reached each switching cycle. Program CL 3 I with a resistor between CL and GND.", 4 MOT (in) "(Maximum On Time) This pin has three functions: 1. MOT programs the allowed maximum on-time, tMOT, of the internal driver. 2. MOT programs the converter’s reaction to overload and power input under-voltage conditions with (See Datasheet)", 5 VGG (power) "This pin provides a DC voltage for the gate of the external high voltage MOSFET. This pin must be decoupled with  a 0.1-uF ceramic capacitor placed between VGG and GND, as close to the device as possible. This pin also (See Datasheet)", 6 DRV (out) "(DRiVe) This pin drives the source of an external high voltage power MOSFET. The DRV pin carries the full primary current of the converter. Connect a Schottky diode between DRV and VDD to provide initial bias at start up.", 7 GND (power) "(GrouND) This pin is the current return terminal for both the analog and power signals in the UCC28610. This terminal carries the full primary current of the converter. Separate the return path of the bulk capacitor from the (See Datasheet)", 8 VDD (power) "This is the bias supply pin for the UCC28610. It can be derived from an external source or an auxiliary winding.This pin must be decoupled with a 0.1-uF ceramic capacitor placed between VDD and GND, as close to the device as (See Datasheet)"

## UCC28610DR
designator U?
Green-mode Flyback Power Supply Controller with Discontinuous Current Control, -40 to +125 degC, 8-pin SOIC (D), Green (RoHS & no Sb/Br); PartNumber: UCC28610DR; Manufacturer: Texas Instruments; Frequency(Max)(kHz): 130; Rating: Catalog; SubFamily: PWM Controller; DatasheetVersion: SLUS888E; PackageVersion: revM, Jun-2011; PackageReference: D8; PackageDescription: 8-Pin Plastic Small Outline Integrated Circuit, 4.9 x 3.9 mm, Pitch 1.27 mm Pitch; Supplier 1: Digi-Key; Supplier Part Number 1: 296-25263-2-ND; Supplier 2: Digi-Key; Supplier Part Number 2: 296-25263-1-ND; Supplier 3: Digi-Key; Supplier Part Number 3: 296-25263-6-ND; Supplier 4: Newark; Supplier Part Number 4: 55R7747; Supplier 5: Mouser; Supplier Part Number 5: 595-UCC28610DR; Control Method: Discontinuous Current; Eco-Plan: Green (RoHS & no Sb/Br); Topology: Flyback; UVLO Thresholds On/Off(V): 10.2/8; Mounting Technology: Surface Mount; Code_JEDEC: MS-012AA; ComponentLink1Description: Datasheet; ComponentLink1URL: http://www.ti.com/general/docs/lit/getliterature.tsp?genericPartNumber=UCC28610&fileType=pdf
footprint D8_N (SOIC, 8-Leads, Body 4.9x3.9mm, Pitch 1.27mm, IPC Medium Density)
footprint D8_L (SOIC, 8-Leads, Body 4.9x3.9mm, Pitch 1.27mm, IPC High Density)
footprint D8_M (SOIC, 8-Leads, Body 4.9x3.9mm, Pitch 1.27mm, IPC Low Density)
pins: 1 FB (in) "(FeedBack) The FB current, IFB, commands the operating mode of the UCC28610. The FB voltage is always 0.7 V. This pin only detects current.", 2 ZCD (in) "(Zero Current Detection) This pin has two functions: 1. ZCD senses the transformer reset based on a valid zero current detection signal. ZCD 2 I 2. ZCD programs the output Over Voltage Protection (OVP) feature using a (See Datasheet)", 3 CL (in) "(Current Limit) This pin programs the peak primary inductor current that is reached each switching cycle. Program CL 3 I with a resistor between CL and GND.", 4 MOT (in) "(Maximum On Time) This pin has three functions: 1. MOT programs the allowed maximum on-time, tMOT, of the internal driver. 2. MOT programs the converter’s reaction to overload and power input under-voltage conditions with (See Datasheet)", 5 VGG (power) "This pin provides a DC voltage for the gate of the external high voltage MOSFET. This pin must be decoupled with  a 0.1-uF ceramic capacitor placed between VGG and GND, as close to the device as possible. This pin also (See Datasheet)", 6 DRV (out) "(DRiVe) This pin drives the source of an external high voltage power MOSFET. The DRV pin carries the full primary current of the converter. Connect a Schottky diode between DRV and VDD to provide initial bias at start up.", 7 GND (power) "(GrouND) This pin is the current return terminal for both the analog and power signals in the UCC28610. This terminal carries the full primary current of the converter. Separate the return path of the bulk capacitor from the (See Datasheet)", 8 VDD (power) "This is the bias supply pin for the UCC28610. It can be derived from an external source or an auxiliary winding.This pin must be decoupled with a 0.1-uF ceramic capacitor placed between VDD and GND, as close to the device as (See Datasheet)"